# Altium schematic symbol library sch_Module.SchLib: 2 symbols
Pins are listed as number, name and electrical type; pins without a type are passive.

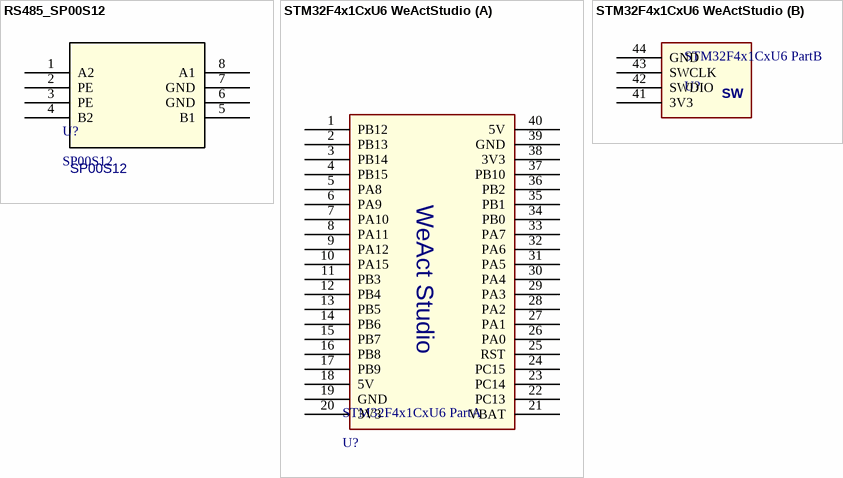
[diagram p0: symbols RS485_SP00S12 to STM32F4x1CxU6 WeActStudio]

## RS485_SP00S12
designator U?, comment SP00S12
Surge Protection for RS485; Mfr_Name: TLPTEC; Package: DIP-8; PartNumber: SP00S12
footprint COMM-TH_RSM485M
pins: 1 A2, 2 PE, 3 PE, 4 B2, 5 B1, 6 GND, 7 GND, 8 A1

## STM32F4x1CxU6 WeActStudio
designator STM32F4x1CxU6 Part, comment U?
STM32F4x1CxU6; ComponentLink1Description: WeAct Studio; ComponentLink1URL: WeAct-TC.cn; ComponentLink2Description: MiniF4-STM32F4x1 Github; ComponentLink2URL: https://github.com/WeActTC/MiniF4-STM32F4x1; ComponentLink3Description: MiniF4-STM32F4x1 Gitee; ComponentLink3URL: https://gitee.com/WeAct-TC/MiniF4-STM32F4x1
footprint STM32F4x1CxU6 WeActStudio
part A pins: 1 PB12, 2 PB13, 3 PB14, 4 PB15, 5 PA8, 6 PA9, 7 PA10, 8 PA11, 9 PA12, 10 PA15, 11 PB3, 12 PB4, 13 PB5, 14 PB6, 15 PB7, 16 PB8, 17 PB9, 18 5V, 19 GND, 20 3V3, 21 VBAT, 22 PC13, 23 PC14, 24 PC15, 25 RST, 26 PA0, 27 PA1, 28 PA2, 29 PA3, 30 PA4, 31 PA5, 32 PA6, 33 PA7, 34 PB0, 35 PB1, 36 PB2, 37 PB10, 38 3V3, 39 GND, 40 5V
part B pins: 41 3V3, 42 SWDIO, 43 SWCLK, 44 GND
part B text: SW